# Altium integrated library Res-SMD_V2.IntLib: 2369 symbols (part 9 of 18)
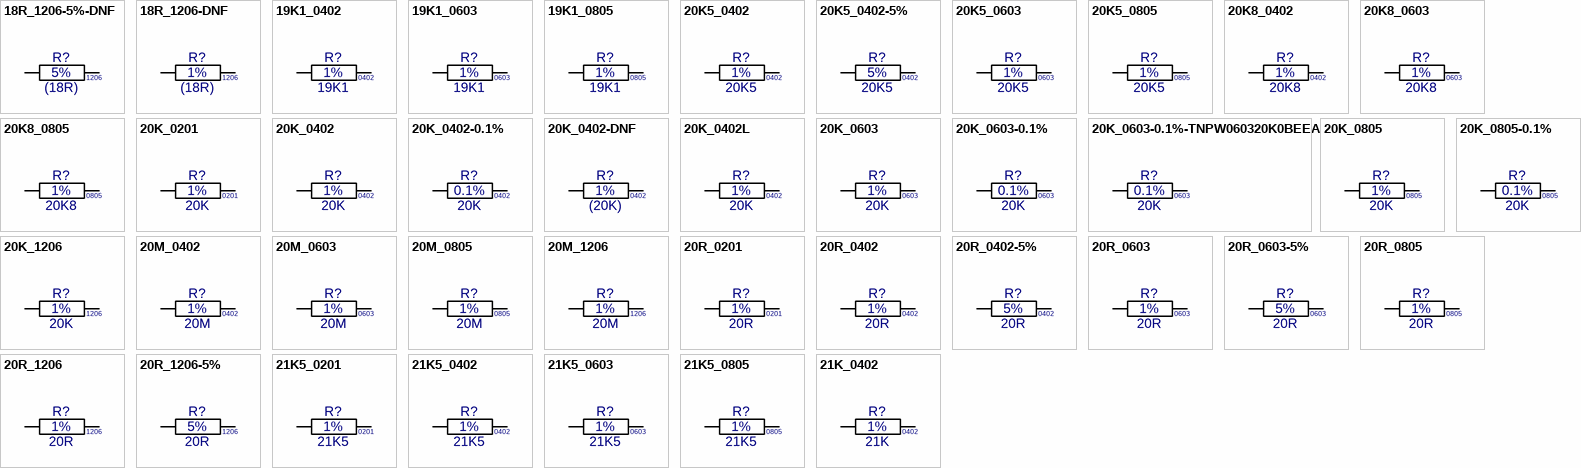
[diagram p67: symbols 18R_1206-5%-DNF to 21K_0402]

## 20R_1206-5%
designator R?, comment value 20R  Tol: 5%  Text1: 1206  (hidden comment: 20R_R1206_5%)
Resistor Chip SMD; Manufacturer: Various; Part Number: 20R 1206 5%; Watt: 250mW; Package: RESC1206X71N; EDM-PN: *; Text2: *; Reutech PN: *; SAAB PN: *; DCE Part No: *
footprint RESC1206X71N (Chip Resistor, 1206, 2-Leads, Body 3.2x1.6mm, IPC Medium Density)
pins: 1, 2

## 21K5_0201
designator R?, comment value 21K5  Tol: 1%  Text1: 0201  (hidden comment: 21K5_R0201_1%)
Resistor Chip SMD; Manufacturer: Various; Part Number: 21K5 0201 1%; Watt: 31mW; Package: RESC0201X33N; EDM-PN: *; Text2: *; Reutech PN: *; SAAB PN: *; DCE Part No: *
footprint RESC0201X33N (Chip Resistor, 0201, 2-Leads, Body 0.6x0.3mm, IPC Medium Density)
pins: 1, 2

## 21K5_0402
designator R?, comment value 21K5  Tol: 1%  Text1: 0402  (hidden comment: 21K5_R0402_1%)
Resistor Chip SMD; Manufacturer: Various; Part Number: 21K5 0402 1%; Watt: 63mW; Package: RESC0402X40N; EDM-PN: *; Text2: *; Reutech PN: *; SAAB PN: *; DCE Part No: *
footprint RESC0402X40N (Chip Resistor, 0402, 2-Leads, Body 1.1x0.5mm, IPC Medium Density)
pins: 1, 2

## 21K5_0603
designator R?, comment value 21K5  Tol: 1%  Text1: 0603  (hidden comment: 21K5_R0603_1%)
Resistor Chip SMD; Manufacturer: Various; Part Number: 21K5 0603 1%; Watt: 100mW; Package: RESC0603X60N; EDM-PN: *; Text2: *; Reutech PN: *; SAAB PN: *; DCE Part No: *
footprint RESC0603X60N (Chip Resistor, 0603, 2-Leads, Body 1.6x0.8mm, IPC Medium Density)
pins: 1, 2

## 21K5_0805
designator R?, comment value 21K5  Tol: 1%  Text1: 0805  (hidden comment: 21K5_R0805_1%)
Resistor Chip SMD; Manufacturer: Various; Part Number: 21K5 0805 1%; Watt: 125mW; Package: RESC0805X65N; EDM-PN: *; Text2: *; Reutech PN: *; SAAB PN: *; DCE Part No: *
footprint RESC0805X65N (Chip Resistor, 0805, 2-Leads, Body 2.0x1.3mm, IPC Medium Density)
pins: 1, 2

## 21K_0402
designator R?, comment value 21K  Tol: 1%  Text1: 0402  (hidden comment: 21K_R0402_1%)
Resistor Chip SMD; Manufacturer: Various; Part Number: 21K 0402 1%; Watt: 63mW; Package: RESC0402X40N; EDM-PN: *; Text2: *; Reutech PN: *; SAAB PN: *; DCE Part No: *
footprint RESC0402X40N (Chip Resistor, 0402, 2-Leads, Body 1.1x0.5mm, IPC Medium Density)
pins: 1, 2

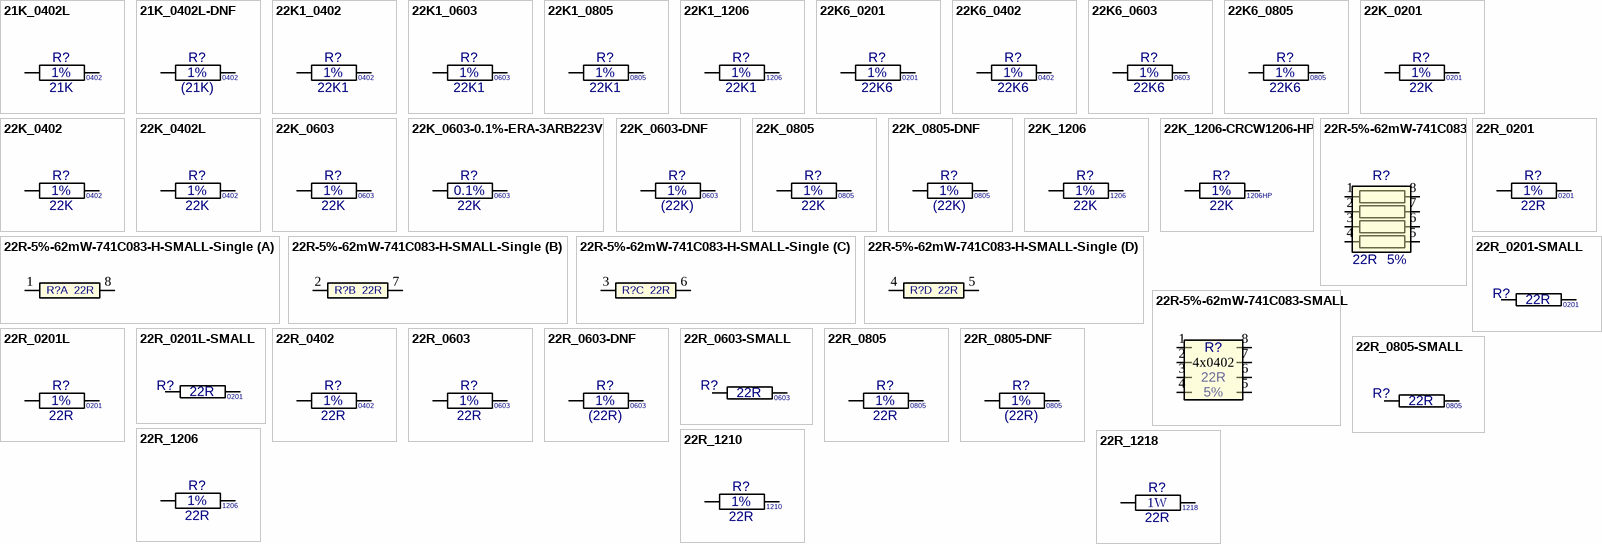
[diagram p27: symbols 21K_0402L to 22R_1218]

## 21K_0402L
designator R?, comment value 21K  Tol: 1%  Text1: 0402  (hidden comment: 21K_R0402_1%)
Resistor Chip SMD; Manufacturer: Various; Part Number: 21K 0402 1%; Watt: 63mW; Package: RESC0402X40L; EDM-PN: *; Text2: *; Reutech PN: *; SAAB PN: *; DCE Part No: *
footprint RESC0402X40L (Chip Resistor, 0402, 2-Leads, Body 1.1x0.5mm, IPC High Density)
pins: 1, 2

## 21K_0402L-DNF
designator R?, comment value (21K)  Tol: 1%  Text1: 0402  (hidden comment: 21K_R0402_1%)
Resistor Chip SMD - Do not Fit; Manufacturer: Various; Part Number: DNF - 21K 0402 1%; Watt: 63mW; Package: RESC0402X40L; EDM-PN: *; Text2: *; Reutech PN: *; SAAB PN: *; DCE Part No: *
footprint RESC0402X40L (Chip Resistor, 0402, 2-Leads, Body 1.1x0.5mm, IPC High Density)
pins: 1, 2

## 22K1_0402
designator R?, comment value 22K1  Tol: 1%  Text1: 0402  (hidden comment: 22K1_R0402_1%)
Resistor Chip SMD; Manufacturer: Various; Part Number: 22K1 0402 1%; Watt: 63mW; Package: RESC0402X40N; EDM-PN: *; Text2: *; Reutech PN: *; SAAB PN: *; DCE Part No: *
footprint RESC0402X40N (Chip Resistor, 0402, 2-Leads, Body 1.1x0.5mm, IPC Medium Density)
pins: 1, 2

## 22K1_0603
designator R?, comment value 22K1  Tol: 1%  Text1: 0603  (hidden comment: 22K1_R0603_1%)
Resistor Chip SMD; Manufacturer: Various; Part Number: 22K1 0603 1%; Watt: 100mW; Package: RESC0603X60N; EDM-PN: *; Text2: *; Reutech PN: *; SAAB PN: *; DCE Part No: *
footprint RESC0603X60N (Chip Resistor, 0603, 2-Leads, Body 1.6x0.8mm, IPC Medium Density)
pins: 1, 2

## 22K1_0805
designator R?, comment value 22K1  Tol: 1%  Text1: 0805  (hidden comment: 22K1_R0805_1%)
Resistor Chip SMD; Manufacturer: Various; Part Number: 22K1 0805 1%; Watt: 125mW; Package: RESC0805X65N; EDM-PN: *; Text2: *; Reutech PN: *; SAAB PN: *; DCE Part No: *
footprint RESC0805X65N (Chip Resistor, 0805, 2-Leads, Body 2.0x1.3mm, IPC Medium Density)
pins: 1, 2

## 22K1_1206
designator R?, comment value 22K1  Tol: 1%  Text1: 1206  (hidden comment: 22K1_R1206_1%)
Resistor Chip SMD; Manufacturer: Various; Part Number: 22K1 1206 1%; Watt: 250mW; Package: RESC1206X71N; EDM-PN: *; Text2: *; Reutech PN: *; SAAB PN: *; DCE Part No: *
footprint RESC1206X71N (Chip Resistor, 1206, 2-Leads, Body 3.2x1.6mm, IPC Medium Density)
pins: 1, 2

## 22K6_0201
designator R?, comment value 22K6  Tol: 1%  Text1: 0201  (hidden comment: 22K6_R0201_1%)
Resistor Chip SMD; Manufacturer: Various; Part Number: 22K6 0201 1%; Watt: 31mW; Package: RESC0201X33N; EDM-PN: *; Text2: *; Reutech PN: *; SAAB PN: *; DCE Part No: *
footprint RESC0201X33N (Chip Resistor, 0201, 2-Leads, Body 0.6x0.3mm, IPC Medium Density)
pins: 1, 2

## 22K6_0402
designator R?, comment value 22K6  Tol: 1%  Text1: 0402  (hidden comment: 22K6_R0402_1%)
Resistor Chip SMD; Manufacturer: Various; Part Number: 22K6 0402 1%; Watt: 63mW; Package: RESC0402X40N; EDM-PN: *; Text2: *; Reutech PN: *; SAAB PN: *; DCE Part No: *
footprint RESC0402X40N (Chip Resistor, 0402, 2-Leads, Body 1.1x0.5mm, IPC Medium Density)
pins: 1, 2

## 22K6_0603
designator R?, comment value 22K6  Tol: 1%  Text1: 0603  (hidden comment: 22K6_R0603_1%)
Resistor Chip SMD; Manufacturer: Various; Part Number: 22K6 0603 1%; Watt: 100mW; Package: RESC0603X60N; EDM-PN: *; Text2: *; Reutech PN: *; SAAB PN: *; DCE Part No: *
footprint RESC0603X60N (Chip Resistor, 0603, 2-Leads, Body 1.6x0.8mm, IPC Medium Density)
pins: 1, 2

## 22K6_0805
designator R?, comment value 22K6  Tol: 1%  Text1: 0805  (hidden comment: 22K6_R0805_1%)
Resistor Chip SMD; Manufacturer: Various; Part Number: 22K6 0805 1%; Watt: 125mW; Package: RESC0805X65N; EDM-PN: *; Text2: *; Reutech PN: *; SAAB PN: *; DCE Part No: *
footprint RESC0805X65N (Chip Resistor, 0805, 2-Leads, Body 2.0x1.3mm, IPC Medium Density)
pins: 1, 2

## 22K_0201
designator R?, comment value 22K  Tol: 1%  Text1: 0201  (hidden comment: 22K_R0201_1%)
Resistor Chip SMD; Manufacturer: Various; Part Number: 22K 0201 1%; Watt: 31mW; Package: RESC0201X33N; EDM-PN: *; Text2: *; Reutech PN: *; SAAB PN: *; DCE Part No: *
footprint RESC0201X33N (Chip Resistor, 0201, 2-Leads, Body 0.6x0.3mm, IPC Medium Density)
pins: 1, 2

## 22K_0402
designator R?, comment value 22K  Tol: 1%  Text1: 0402  (hidden comment: 22K_R0402_1%)
Resistor Chip SMD; Manufacturer: Various; Part Number: 22K 0402 1%; DCE Part No: 8056; Watt: 63mW; EDM-PN: RES656; Package: RESC0402X40N; Text2: *; Reutech PN: *; SAAB PN: *
footprint RESC0402X40N (Chip Resistor, 0402, 2-Leads, Body 1.1x0.5mm, IPC Medium Density)
pins: 1, 2

## 22K_0402L
designator R?, comment value 22K  Tol: 1%  Text1: 0402  (hidden comment: 22K_R0402_1%)
Resistor Chip SMD; Manufacturer: Various; Part Number: 22K 0402 1%; DCE Part No: 8056; Watt: 63mW; EDM-PN: RES656; Package: RESC0402X40L; Text2: *; Reutech PN: *; SAAB PN: *
footprint RESC0402X40L (Chip Resistor, 0402, 2-Leads, Body 1.1x0.5mm, IPC High Density)
pins: 1, 2

## 22K_0603
designator R?, comment value 22K  Tol: 1%  Text1: 0603  (hidden comment: 22K_R0603_1%)
Resistor Chip SMD; Manufacturer: Various; Part Number: 22K 0603 1%; Watt: 100mW; EDM-PN: RES182; Package: RESC0603X60N; Text2: *; Reutech PN: *; SAAB PN: *; DCE Part No: *
footprint RESC0603X60N (Chip Resistor, 0603, 2-Leads, Body 1.6x0.8mm, IPC Medium Density)
pins: 1, 2

## 22K_0603-0.1%-ERA-3ARB223V
designator R?, comment value 22K  Tol: 0.1%  Text1: 0603  (hidden comment: ERA-3ARB223V)
Resistor Chip SMD; Manufacturer: Panasonic; Watt: 100mW; Part Number: ERA-3ARB223V; Package: RESC0603X60N; EDM-PN: *; Text2: *; Reutech PN: *; SAAB PN: *; DCE Part No: *
footprint RESC0603X60N (Chip Resistor, 0603, 2-Leads, Body 1.6x0.8mm, IPC Medium Density)
pins: 1, 2

## 22K_0603-DNF
designator R?, comment value (22K)  Tol: 1%  Text1: 0603  (hidden comment: 22K_R0603_1%)
Resistor Chip SMD - Do not Fit; Manufacturer: Various; Part Number: DNF - 22K 0603 1%; Watt: 100mW; EDM-PN: RES182; Package: RESC0603X60N; Text2: *; Reutech PN: *; SAAB PN: *; DCE Part No: *
footprint RESC0603X60N (Chip Resistor, 0603, 2-Leads, Body 1.6x0.8mm, IPC Medium Density)
pins: 1, 2

## 22K_0805
designator R?, comment value 22K  Tol: 1%  Text1: 0805  (hidden comment: 22K_R0805_1%)
Resistor Chip SMD; Manufacturer: Various; Part Number: 22K 0805 1%; Watt: 125mW; EDM-PN: RES63; Package: RESC0805X65N; Text2: *; Reutech PN: *; SAAB PN: *; DCE Part No: *
footprint RESC0805X65N (Chip Resistor, 0805, 2-Leads, Body 2.0x1.3mm, IPC Medium Density)
pins: 1, 2

## 22K_0805-DNF
designator R?, comment value (22K)  Tol: 1%  Text1: 0805  (hidden comment: 22K_R0805_1%)
Resistor Chip SMD - Do not Fit; Manufacturer: Various; Part Number: DNF - 22K 0805 1%; Watt: 125mW; EDM-PN: RES63; Package: RESC0805X65N; Text2: *; Reutech PN: *; SAAB PN: *; DCE Part No: *
footprint RESC0805X65N (Chip Resistor, 0805, 2-Leads, Body 2.0x1.3mm, IPC Medium Density)
pins: 1, 2

## 22K_1206
designator R?, comment value 22K  Tol: 1%  Text1: 1206  (hidden comment: 22K_R1206_1%)
Resistor Chip SMD; Manufacturer: Various; Part Number: 22K 1206 1%; Watt: 250mW; Package: RESC1206X71N; EDM-PN: *; Text2: *; Reutech PN: *; SAAB PN: *; DCE Part No: *
footprint RESC1206X71N (Chip Resistor, 1206, 2-Leads, Body 3.2x1.6mm, IPC Medium Density)
pins: 1, 2

## 22K_1206-CRCW1206-HP
designator R?, comment value 22K  Tol: 1%  Text1: 1206HP  (hidden comment: 22K_R1206_1%-CRCW1206-HP)
Resistor Chip Pulse Proof High Power Thick Film; Manufacturer: Vishay; Part Number: CRCW120622K0FKEAHP; Watt: 500mW; Package: CRCW1206-HP; EDM-PN: *; Text2: *; Reutech PN: *; SAAB PN: *; DCE Part No: *
footprint CRCW1206-HP (CCRCW1206-HP 3.2x1.6mm, IPC Medium Density)
pins: 1, 2

## 22R-5%-62mW-741C083
designator R?, comment value 22R  Tol: 5%  (hidden comment: 22R-5%-62mW-741C083-H)
Resistor Chip Array; Manufacturer: CTS; Part Number: 741C083220JP; Watt: 62mW; Package: 741C083; EDM-PN: *; Text2: *; Text1: *; Reutech PN: *; SAAB PN: *; DCE Part No: *
footprint 741C083 (741C083 1.0x2.0mm)
pins: 1, 2, 3, 4, 5, 6, 7, 8

## 22R-5%-62mW-741C083-H-SMALL-Single
designator R?  value 22R  (hidden comment: 22R-5%-62mW-741C083-H-SMALL-Single)
Resistor Chip Array; Manufacturer: CTS; Part Number: 741C083220JP; Watt: 62mW; Tol: 5%; Package: 741C083; EDM-PN: *; Text2: *; Text1: *; Reutech PN: *; SAAB PN: *; DCE Part No: *
footprint 741C083 (741C083 1.0x2.0mm)
part A pins: 1, 8
part B pins: 2, 7
part C pins: 3, 6
part D pins: 4, 5

## 22R-5%-62mW-741C083-SMALL
designator R?, comment value 22R  Tol: 5%  (hidden comment: 22R-5%-62mW-741C083-H-SMALL)
Resistor Chip Array; Manufacturer: CTS; Part Number: 741C083220JP; Watt: 62mW; Package: 741C083; EDM-PN: *; Text2: *; Text1: *; Reutech PN: *; SAAB PN: *; DCE Part No: *
footprint 741C083 (741C083 1.0x2.0mm)
pins: 1, 2, 3, 4, 5, 6, 7, 8
text: 4x0402

## 22R_0201
designator R?, comment value 22R  Tol: 1%  Text1: 0201  (hidden comment: 22R_R0201_1%)
Resistor Chip SMD; Manufacturer: Various; Part Number: 22R 0201 1%; Watt: 31mW; Package: RESC0201X33N; EDM-PN: *; Text2: *; Reutech PN: *; SAAB PN: *; DCE Part No: *
footprint RESC0201X33N (Chip Resistor, 0201, 2-Leads, Body 0.6x0.3mm, IPC Medium Density)
pins: 1, 2

## 22R_0201-SMALL
designator R?, comment value 22R  Text1: 0201  (hidden comment: 22R_R0201_1%)
Resistor Chip SMD; Manufacturer: Various; Part Number: 22R 0201 1%; Watt: 31mW; Tol: 1%; Package: RESC0201X33N; EDM-PN: *; Text2: *; Reutech PN: *; SAAB PN: *; DCE Part No: *
footprint RESC0201X33N (Chip Resistor, 0201, 2-Leads, Body 0.6x0.3mm, IPC Medium Density)
pins: 1, 2

## 22R_0201L
designator R?, comment value 22R  Tol: 1%  Text1: 0201  (hidden comment: 22R_R0201_1%)
Resistor Chip SMD; Manufacturer: Various; Part Number: 22R 0201 1%; Watt: 31mW; Package: RESC0201X33L; EDM-PN: *; Text2: *; Reutech PN: *; SAAB PN: *; DCE Part No: *
footprint RESC0201X33L (Chip Resistor, 0201, 2-Leads, Body 0.6x0.3mm, IPC Least Density)
pins: 1, 2

## 22R_0201L-SMALL
designator R?, comment value 22R  Text1: 0201  (hidden comment: 22R_R0201_1%)
Resistor Chip SMD; Manufacturer: Various; Part Number: 22R 0201 1%; Watt: 31mW; Tol: 1%; Package: RESC0201X33L; EDM-PN: *; Text2: *; Reutech PN: *; SAAB PN: *; DCE Part No: *
footprint RESC0201X33L (Chip Resistor, 0201, 2-Leads, Body 0.6x0.3mm, IPC Least Density)
pins: 1, 2

## 22R_0402
designator R?, comment value 22R  Tol: 1%  Text1: 0402  (hidden comment: 22R_R0402_1%)
Resistor Chip SMD; Manufacturer: Various; Part Number: 22R 0402 1%; Watt: 63mW; EDM-PN: RES1428; Package: RESC0402X40N; Text2: *; Reutech PN: *; SAAB PN: *; DCE Part No: *
footprint RESC0402X40N (Chip Resistor, 0402, 2-Leads, Body 1.1x0.5mm, IPC Medium Density)
pins: 1, 2

## 22R_0603
designator R?, comment value 22R  Tol: 1%  Text1: 0603  (hidden comment: 22R_R0603_1%)
Resistor Chip SMD; Manufacturer: Various; Part Number: 22R 0603 1%; Watt: 100mW; EDM-PN: RES181; Package: RESC0603X60N; Text2: *; Reutech PN: *; SAAB PN: *; DCE Part No: *
footprint RESC0603X60N (Chip Resistor, 0603, 2-Leads, Body 1.6x0.8mm, IPC Medium Density)
pins: 1, 2

## 22R_0603-DNF
designator R?, comment value (22R)  Tol: 1%  Text1: 0603  (hidden comment: 22R_R0603_1%-DNF)
Resistor Chip SMD - Do not Fit; Manufacturer: Various; Part Number: DNF - 22R 0603 1%; Watt: 100mW; Package: RESC0603X60N; EDM-PN: *; Text2: *; Reutech PN: *; SAAB PN: *; DCE Part No: *
footprint RESC0603X60N (Chip Resistor, 0603, 2-Leads, Body 1.6x0.8mm, IPC Medium Density)
pins: 1, 2

## 22R_0603-SMALL
designator R?, comment value 22R  Text1: 0603  (hidden comment: 22R_R0603_1%)
Resistor Chip SMD; Manufacturer: Various; Part Number: 22R 0603 1%; Watt: 100mW; EDM-PN: RES181; Tol: 1%; Package: RESC0603X60N; Text2: *; Reutech PN: *; SAAB PN: *; DCE Part No: *
footprint RESC0603X60N (Chip Resistor, 0603, 2-Leads, Body 1.6x0.8mm, IPC Medium Density)
pins: 1, 2

## 22R_0805
designator R?, comment value 22R  Tol: 1%  Text1: 0805  (hidden comment: 22R_R0805_1%)
Resistor Chip SMD; Manufacturer: Various; Part Number: 22R 0805 1%; Watt: 125mW; EDM-PN: RES16; Package: RESC0805X65N; Text2: *; Reutech PN: *; SAAB PN: *; DCE Part No: *
footprint RESC0805X65N (Chip Resistor, 0805, 2-Leads, Body 2.0x1.3mm, IPC Medium Density)
pins: 1, 2

## 22R_0805-DNF
designator R?, comment value (22R)  Tol: 1%  Text1: 0805  (hidden comment: 22R_R0805_1%-DNF)
Resistor Chip SMD - Do not Fit; Manufacturer: Various; Part Number: DNF - 22R 0805 1%; Watt: 125mW; EDM-PN: RES16; Package: RESC0805X65N; Text2: *; Reutech PN: *; SAAB PN: *; DCE Part No: *
footprint RESC0805X65N (Chip Resistor, 0805, 2-Leads, Body 2.0x1.3mm, IPC Medium Density)
pins: 1, 2

## 22R_0805-SMALL
designator R?, comment value 22R  Text1: 0805  (hidden comment: 22R_R0805_1%)
Resistor Chip SMD; Manufacturer: Various; Part Number: 22R 0805 1%; Watt: 125mW; EDM-PN: RES16; Tol: 1%; Package: RESC0805X65N; Text2: *; Reutech PN: *; SAAB PN: *; DCE Part No: *
footprint RESC0805X65N (Chip Resistor, 0805, 2-Leads, Body 2.0x1.3mm, IPC Medium Density)
pins: 1, 2

## 22R_1206
designator R?, comment value 22R  Tol: 1%  Text1: 1206  (hidden comment: 22R_R1206_1%)
Resistor Chip SMD; Manufacturer: Various; Part Number: 22R 1206 1%; Watt: 250mW; EDM-PN: RES514; Package: RESC1206X71N; Text2: *; Reutech PN: *; SAAB PN: *; DCE Part No: *
footprint RESC1206X71N (Chip Resistor, 1206, 2-Leads, Body 3.2x1.6mm, IPC Medium Density)
pins: 1, 2

## 22R_1210
designator R?, comment value 22R  Tol: 1%  Text1: 1210  (hidden comment: 22R_R1210_1%)
Resistor Chip SMD; Manufacturer: Various; Part Number: 22R 1210 1%; Watt: 500mW; EDM-PN: RES1564; Package: RESC1210X71N; Text2: *; Reutech PN: *; SAAB PN: *; DCE Part No: *
footprint RESC1210X71N (Chip Resistor, 1210, 2-Leads, Body 3.2x2.5mm, IPC Medium Density)
pins: 1, 2

## 22R_1218
designator R?, comment value 22R  Watt: 1W  Text1: 1218  (hidden comment: 22R_R1218_1%)
Resistor Chip SMD; Manufacturer: Various; Part Number: 22R 1218 1%; Tol: 1%; Package: RESC1218N; EDM-PN: *; Text2: *; Reutech PN: *; SAAB PN: *; DCE Part No: *
footprint RESC1218N (Chip Resistor, 1218, 2-Leads, Body 3.2x4.6mm, IPC Medium Density)
pins: 1, 2

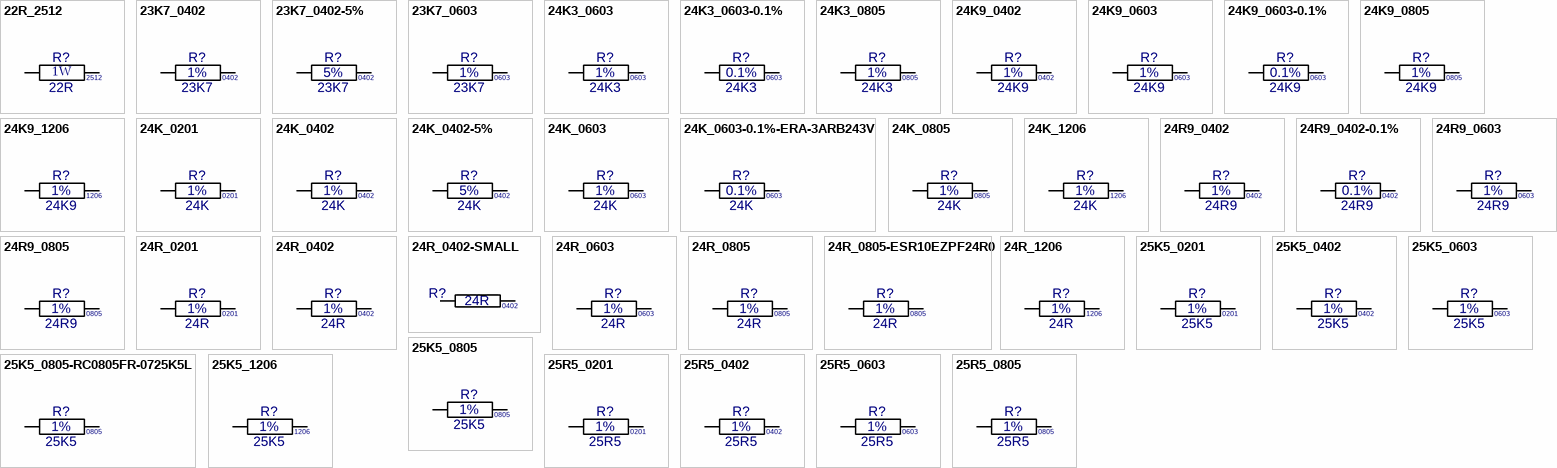
[diagram p28: symbols 22R_2512 to 25R5_0805]

## 22R_2512
designator R?, comment value 22R  Watt: 1W  Text1: 2512  (hidden comment: 22R_R2512)
Resistor Chip SMD; Manufacturer: Various; Part Number: 22R 2512  1%; Tol: 1%; Package: RESC2512X71N; EDM-PN: *; Text2: *; Reutech PN: *; SAAB PN: *; DCE Part No: *
footprint RESC2512X71N (Chip Resistor, 2512, 2-Leads, Body 6.3x3.2mm, IPC Medium Density)
pins: 1, 2

## 23K7_0402
designator R?, comment value 23K7  Tol: 1%  Text1: 0402  (hidden comment: 23K7_R0402_1%)
Resistor Chip SMD; Manufacturer: Various; Part Number: 23K7 0402 1%; Watt: 63mW; Package: RESC0402X40N; EDM-PN: *; Text2: *; Reutech PN: *; SAAB PN: *; DCE Part No: *
footprint RESC0402X40N (Chip Resistor, 0402, 2-Leads, Body 1.1x0.5mm, IPC Medium Density)
pins: 1, 2

## 23K7_0402-5%
designator R?, comment value 23K7  Tol: 5%  Text1: 0402  (hidden comment: 23K7_R0402_5%)
Resistor Chip SMD; Manufacturer: Various; Part Number: 23K7 0402 5%; Watt: 63mW; Package: RESC0402X40N; EDM-PN: *; Text2: *; Reutech PN: *; SAAB PN: *; DCE Part No: *
footprint RESC0402X40N (Chip Resistor, 0402, 2-Leads, Body 1.1x0.5mm, IPC Medium Density)
pins: 1, 2

## 23K7_0603
designator R?, comment value 23K7  Tol: 1%  Text1: 0603  (hidden comment: 23K7_R0603_1%)
Resistor Chip SMD; Manufacturer: Various; Part Number: 23K7 0603 1%; Watt: 100mW; EDM-PN: RES1523; Package: RESC0603X60N; Text2: *; Reutech PN: *; SAAB PN: *; DCE Part No: *
footprint RESC0603X60N (Chip Resistor, 0603, 2-Leads, Body 1.6x0.8mm, IPC Medium Density)
pins: 1, 2

## 24K3_0603
designator R?, comment value 24K3  Tol: 1%  Text1: 0603  (hidden comment: 24K3_R0603_1%)
Resistor Chip SMD; Manufacturer: Various; Part Number: 24K3 0603 1%; Watt: 100mW; Package: RESC0603X60N; EDM-PN: *; Text2: *; Reutech PN: *; SAAB PN: *; DCE Part No: *
footprint RESC0603X60N (Chip Resistor, 0603, 2-Leads, Body 1.6x0.8mm, IPC Medium Density)
pins: 1, 2

## 24K3_0603-0.1%
designator R?, comment value 24K3  Tol: 0.1%  Text1: 0603  (hidden comment: 24K3_R0603_0.1%)
Resistor Chip SMD; Manufacturer: Various; Part Number: 24K3 0603 0.1%; Watt: 100mW; Package: RESC0603X60N; EDM-PN: *; Text2: *; Reutech PN: *; SAAB PN: *; DCE Part No: *
footprint RESC0603X60N (Chip Resistor, 0603, 2-Leads, Body 1.6x0.8mm, IPC Medium Density)
pins: 1, 2

## 24K3_0805
designator R?, comment value 24K3  Tol: 1%  Text1: 0805  (hidden comment: 24K3_R0805_1%)
Resistor Chip SMD; Manufacturer: Various; Part Number: 24K3 0805 1%; Watt: 125mW; Package: RESC0805X65N; EDM-PN: *; Text2: *; Reutech PN: *; SAAB PN: *; DCE Part No: *
footprint RESC0805X65N (Chip Resistor, 0805, 2-Leads, Body 2.0x1.3mm, IPC Medium Density)
pins: 1, 2

## 24K9_0402
designator R?, comment value 24K9  Tol: 1%  Text1: 0402  (hidden comment: 24K9_R0402_1%)
Resistor Chip SMD; Manufacturer: Various; Part Number: 24K9 0402 1%; Watt: 63mW; Package: RESC0402X40N; EDM-PN: *; Text2: *; Reutech PN: *; SAAB PN: *; DCE Part No: *
footprint RESC0402X40N (Chip Resistor, 0402, 2-Leads, Body 1.1x0.5mm, IPC Medium Density)
pins: 1, 2

## 24K9_0603
designator R?, comment value 24K9  Tol: 1%  Text1: 0603  (hidden comment: 24K9_R0603)
Resistor Chip SMD; Manufacturer: Various; Part Number: 24K9 0603 1%; Watt: 100mW; EDM-PN: RES1027; Package: RESC0603X60N; Text2: *; Reutech PN: *; SAAB PN: *; DCE Part No: *
footprint RESC0603X60N (Chip Resistor, 0603, 2-Leads, Body 1.6x0.8mm, IPC Medium Density)
pins: 1, 2

## 24K9_0603-0.1%
designator R?, comment value 24K9  Tol: 0.1%  Text1: 0603  (hidden comment: 24K9_R0603_0.1%)
Resistor Chip SMD; Manufacturer: Various; Part Number: 24K9 0603 0.1%; Watt: 100mW; Package: RESC0603X60N; EDM-PN: *; Text2: *; Reutech PN: *; SAAB PN: *; DCE Part No: *
footprint RESC0603X60N (Chip Resistor, 0603, 2-Leads, Body 1.6x0.8mm, IPC Medium Density)
pins: 1, 2

## 24K9_0805
designator R?, comment value 24K9  Tol: 1%  Text1: 0805  (hidden comment: 24K9_R0805_1%)
Resistor Chip SMD; Manufacturer: Various; Part Number: 24K9 0805 1%; Watt: 125mW; Package: RESC0805X65N; EDM-PN: *; Text2: *; Reutech PN: *; SAAB PN: *; DCE Part No: *
footprint RESC0805X65N (Chip Resistor, 0805, 2-Leads, Body 2.0x1.3mm, IPC Medium Density)
pins: 1, 2

## 24K9_1206
designator R?, comment value 24K9  Tol: 1%  Text1: 1206  (hidden comment: 24K9_R1206_1%)
Resistor Chip SMD; Manufacturer: Various; Part Number: 24K9 1206 1%; Watt: 250mW; Package: RESC1206X71N; EDM-PN: *; Text2: *; Reutech PN: *; SAAB PN: *; DCE Part No: *
footprint RESC1206X71N (Chip Resistor, 1206, 2-Leads, Body 3.2x1.6mm, IPC Medium Density)
pins: 1, 2

## 24K_0201
designator R?, comment value 24K  Tol: 1%  Text1: 0201  (hidden comment: 24K_R0201_1%)
Resistor Chip SMD; Manufacturer: Various; Part Number: 24K 0201 1%; Watt: 31mW; Package: RESC0201X33N; EDM-PN: *; Text2: *; Reutech PN: *; SAAB PN: *; DCE Part No: *
footprint RESC0201X33N (Chip Resistor, 0201, 2-Leads, Body 0.6x0.3mm, IPC Medium Density)
pins: 1, 2

## 24K_0402
designator R?, comment value 24K  Tol: 1%  Text1: 0402  (hidden comment: 24K_R0402_1%)
Resistor Chip SMD; Manufacturer: Various; Part Number: 24K 0402 1%; Watt: 63mW; EDM-PN: RES1488; Package: RESC0402X40N; Text2: *; Reutech PN: *; SAAB PN: *; DCE Part No: *
footprint RESC0402X40N (Chip Resistor, 0402, 2-Leads, Body 1.1x0.5mm, IPC Medium Density)
pins: 1, 2

## 24K_0402-5%
designator R?, comment value 24K  Tol: 5%  Text1: 0402  (hidden comment: 24K_R0402_5%)
Resistor Chip SMD; Manufacturer: Various; Part Number: 24K 0402 5%; Watt: 63mW; Package: RESC0402X40N; EDM-PN: *; Text2: *; Reutech PN: *; SAAB PN: *; DCE Part No: *
footprint RESC0402X40N (Chip Resistor, 0402, 2-Leads, Body 1.1x0.5mm, IPC Medium Density)
pins: 1, 2

## 24K_0603
designator R?, comment value 24K  Tol: 1%  Text1: 0603  (hidden comment: 24K_R0603_1%)
Resistor Chip SMD; Manufacturer: Various; Part Number: 24K 0603 1%; Watt: 100mW; EDM-PN: RES750; Package: RESC0603X60N; Text2: *; Reutech PN: 5905-93-2402; SAAB PN: *; DCE Part No: *
footprint RESC0603X60N (Chip Resistor, 0603, 2-Leads, Body 1.6x0.8mm, IPC Medium Density)
pins: 1, 2

## 24K_0603-0.1%-ERA-3ARB243V
designator R?, comment value 24K  Tol: 0.1%  Text1: 0603  (hidden comment: ERA-3ARB243V)
Resistor Chip SMD; Manufacturer: Panasonic; Watt: 100mW; Part Number: ERA-3ARB243V; Package: RESC0603X60N; EDM-PN: *; Text2: *; Reutech PN: *; SAAB PN: *; DCE Part No: *
footprint RESC0603X60N (Chip Resistor, 0603, 2-Leads, Body 1.6x0.8mm, IPC Medium Density)
pins: 1, 2

## 24K_0805
designator R?, comment value 24K  Tol: 1%  Text1: 0805  (hidden comment: 24K_R0805_1%)
Resistor Chip SMD; Manufacturer: Various; Part Number: 24K 0805 1%; Watt: 125mW; Package: RESC0805X65N; EDM-PN: *; Text2: *; Reutech PN: *; SAAB PN: *; DCE Part No: *
footprint RESC0805X65N (Chip Resistor, 0805, 2-Leads, Body 2.0x1.3mm, IPC Medium Density)
pins: 1, 2

## 24K_1206
designator R?, comment value 24K  Tol: 1%  Text1: 1206  (hidden comment: 24K_R1206_1%)
Resistor Chip SMD; Manufacturer: Various; Part Number: 24K 1206 1%; Watt: 250mW; Package: RESC1206X71N; EDM-PN: *; Text2: *; Reutech PN: *; SAAB PN: *; DCE Part No: *
footprint RESC1206X71N (Chip Resistor, 1206, 2-Leads, Body 3.2x1.6mm, IPC Medium Density)
pins: 1, 2

## 24R9_0402
designator R?, comment value 24R9  Tol: 1%  Text1: 0402  (hidden comment: 24R9_R0402_1%)
Resistor Chip SMD; Manufacturer: Various; Part Number: 24R9 0402 1%; Watt: 63mW; Package: RESC0402X40N; EDM-PN: *; Text2: *; Reutech PN: *; SAAB PN: *; DCE Part No: *
footprint RESC0402X40N (Chip Resistor, 0402, 2-Leads, Body 1.1x0.5mm, IPC Medium Density)
pins: 1, 2

## 24R9_0402-0.1%
designator R?, comment value 24R9  Tol: 0.1%  Text1: 0402  (hidden comment: 24R9_R0402_0.1%)
Resistor Chip SMD; Manufacturer: Various; Part Number: 24R9 0402 0.1%; Watt: 63mW; Package: RESC0402X40N; EDM-PN: *; Text2: *; Reutech PN: *; SAAB PN: *; DCE Part No: *
footprint RESC0402X40N (Chip Resistor, 0402, 2-Leads, Body 1.1x0.5mm, IPC Medium Density)
pins: 1, 2

## 24R9_0603
designator R?, comment value 24R9  Tol: 1%  Text1: 0603  (hidden comment: 24R9_R0603)
Resistor Chip SMD; Manufacturer: Various; Part Number: 24R9 0603 1%; Watt: 100mW; Package: RESC0603X60N; EDM-PN: *; Text2: *; Reutech PN: *; SAAB PN: *; DCE Part No: *
footprint RESC0603X60N (Chip Resistor, 0603, 2-Leads, Body 1.6x0.8mm, IPC Medium Density)
pins: 1, 2

## 24R9_0805
designator R?, comment value 24R9  Tol: 1%  Text1: 0805  (hidden comment: 24R9_R0805_1%)
Resistor Chip SMD; Manufacturer: Various; Part Number: 24R9 0805 1%; Watt: 125mW; Package: RESC0805X65N; EDM-PN: *; Text2: *; Reutech PN: *; SAAB PN: *; DCE Part No: *
footprint RESC0805X65N (Chip Resistor, 0805, 2-Leads, Body 2.0x1.3mm, IPC Medium Density)
pins: 1, 2

## 24R_0201
designator R?, comment value 24R  Tol: 1%  Text1: 0201  (hidden comment: 24R_R0201_1%)
Resistor Chip SMD; Manufacturer: Various; Part Number: 24R 0201 1%; Watt: 31mW; Package: RESC0201X33N; EDM-PN: *; Text2: *; Reutech PN: *; SAAB PN: *; DCE Part No: *
footprint RESC0201X33N (Chip Resistor, 0201, 2-Leads, Body 0.6x0.3mm, IPC Medium Density)
pins: 1, 2

## 24R_0402
designator R?, comment value 24R  Tol: 1%  Text1: 0402  (hidden comment: 24R_R0402_1%)
Resistor Chip SMD; Manufacturer: Various; Part Number: 24R 0402 1%; Watt: 63mW; Package: RESC0402X40N; EDM-PN: *; Text2: *; Reutech PN: *; SAAB PN: *; DCE Part No: *
footprint RESC0402X40N (Chip Resistor, 0402, 2-Leads, Body 1.1x0.5mm, IPC Medium Density)
pins: 1, 2

## 24R_0402-SMALL
designator R?, comment value 24R  Text1: 0402  (hidden comment: 24R_R0402_1%)
Resistor Chip SMD; Manufacturer: Various; Part Number: 24R 0402 1%; Watt: 63mW; Tol: 1%; Package: RESC0402X40N; EDM-PN: *; Text2: *; Reutech PN: *; SAAB PN: *; DCE Part No: *
footprint RESC0402X40N (Chip Resistor, 0402, 2-Leads, Body 1.1x0.5mm, IPC Medium Density)
pins: 1, 2

## 24R_0603
designator R?, comment value 24R  Tol: 1%  Text1: 0603  (hidden comment: 24R_R0603_1%)
Resistor Chip SMD; Manufacturer: Various; Part Number: 24R 0603 1%; Watt: 100mW; Reutech PN: 5905-93-; Package: RESC0603X60N; EDM-PN: *; Text2: *; SAAB PN: *; DCE Part No: *
footprint RESC0603X60N (Chip Resistor, 0603, 2-Leads, Body 1.6x0.8mm, IPC Medium Density)
pins: 1, 2

## 24R_0805
designator R?, comment value 24R  Tol: 1%  Text1: 0805  (hidden comment: 24R_R0805_1%)
Resistor Chip SMD; Manufacturer: Various; Part Number: 24R 0805 1%; Watt: 125mW; EDM-PN: RES1583; Package: RESC0805X65N; Text2: *; Reutech PN: *; SAAB PN: *; DCE Part No: *
footprint RESC0805X65N (Chip Resistor, 0805, 2-Leads, Body 2.0x1.3mm, IPC Medium Density)
pins: 1, 2

## 24R_0805-ESR10EZPF24R0
designator R?, comment value 24R  Tol: 1%  Text1: 0805  (hidden comment: ESR10EZPF24R0)
Resistor Pulse Withstanding Thick Film; Manufacturer: Rohm; Watt: 400mW; Part Number: ESR10EZPF24R0; Package: RESC0805X65N; EDM-PN: *; Text2: *; Reutech PN: *; SAAB PN: *; DCE Part No: *
footprint RESC0805X65N (Chip Resistor, 0805, 2-Leads, Body 2.0x1.3mm, IPC Medium Density)
pins: 1, 2

## 24R_1206
designator R?, comment value 24R  Tol: 1%  Text1: 1206  (hidden comment: 24R_R1206_1%)
Resistor Chip SMD; Manufacturer: Various; Part Number: 24R 1206 1%; Watt: 250mW; Package: RESC1206X71N; EDM-PN: *; Text2: *; Reutech PN: *; SAAB PN: *; DCE Part No: *
footprint RESC1206X71N (Chip Resistor, 1206, 2-Leads, Body 3.2x1.6mm, IPC Medium Density)
pins: 1, 2

## 25K5_0201
designator R?, comment value 25K5  Tol: 1%  Text1: 0201  (hidden comment: 25K5_R0201_1%)
Resistor Chip SMD; Manufacturer: Various; Part Number: 25K5 0201 1%; Watt: 31mW; Package: RESC0201X33N; EDM-PN: *; Text2: *; Reutech PN: *; SAAB PN: *; DCE Part No: *
footprint RESC0201X33N (Chip Resistor, 0201, 2-Leads, Body 0.6x0.3mm, IPC Medium Density)
pins: 1, 2

## 25K5_0402
designator R?, comment value 25K5  Tol: 1%  Text1: 0402  (hidden comment: 25K5_R0402_1%)
Resistor Chip SMD; Manufacturer: Various; Part Number: 25K5 0402 1%; Watt: 63mW; Package: RESC0402X40N; EDM-PN: *; Text2: *; Reutech PN: *; SAAB PN: *; DCE Part No: *
footprint RESC0402X40N (Chip Resistor, 0402, 2-Leads, Body 1.1x0.5mm, IPC Medium Density)
pins: 1, 2

## 25K5_0603
designator R?, comment value 25K5  Tol: 1%  Text1: 0603  (hidden comment: 25K5_R0603_1%)
Resistor Chip SMD; Manufacturer: Various; Part Number: 25K5 0603 1%; Watt: 100mW; Package: RESC0603X60N; EDM-PN: *; Text2: *; Reutech PN: 5905-93-2552; SAAB PN: *; DCE Part No: *
footprint RESC0603X60N (Chip Resistor, 0603, 2-Leads, Body 1.6x0.8mm, IPC Medium Density)
pins: 1, 2

## 25K5_0805
designator R?, comment value 25K5  Tol: 1%  Text1: 0805  (hidden comment: 25K5_R0805_1%)
Resistor Chip SMD; Manufacturer: Various; Part Number: 25K5 0805 1%; Watt: 125mW; Package: RESC0805X65N; EDM-PN: *; Text2: *; Reutech PN: *; SAAB PN: *; DCE Part No: *
footprint RESC0805X65N (Chip Resistor, 0805, 2-Leads, Body 2.0x1.3mm, IPC Medium Density)
pins: 1, 2

## 25K5_0805-RC0805FR-0725K5L
designator R?, comment value 25K5  Tol: 1%  Text1: 0805  (hidden comment: 25K5_RC0805FR-0725K5L)
Resistor Moisture Resistant Thick Film; Manufacturer: Yageo; Watt: 125mW; Part Number: RC0805FR-0725K5L; Package: RESC0805X65N; EDM-PN: *; Text2: *; Reutech PN: *; SAAB PN: *; DCE Part No: *
footprint RESC0805X65N (Chip Resistor, 0805, 2-Leads, Body 2.0x1.3mm, IPC Medium Density)
pins: 1, 2

## 25K5_1206
designator R?, comment value 25K5  Tol: 1%  Text1: 1206  (hidden comment: 25K5_R1206_1%)
Resistor Chip SMD; Manufacturer: Various; Part Number: 25K5 1206 1%; Watt: 250mW; Package: RESC1206X71N; EDM-PN: *; Text2: *; Reutech PN: *; SAAB PN: *; DCE Part No: *
footprint RESC1206X71N (Chip Resistor, 1206, 2-Leads, Body 3.2x1.6mm, IPC Medium Density)
pins: 1, 2

## 25R5_0201
designator R?, comment value 25R5  Tol: 1%  Text1: 0201  (hidden comment: 25R5_R0201_1%)
Resistor Chip SMD; Manufacturer: Various; Part Number: 25R5 0201 1%; Watt: 31mW; Package: RESC0201X33N; EDM-PN: *; Text2: *; Reutech PN: *; SAAB PN: *; DCE Part No: *
footprint RESC0201X33N (Chip Resistor, 0201, 2-Leads, Body 0.6x0.3mm, IPC Medium Density)
pins: 1, 2

## 25R5_0402
designator R?, comment value 25R5  Tol: 1%  Text1: 0402  (hidden comment: 25R5_R0402_1%)
Resistor Chip SMD; Manufacturer: Various; Part Number: 25R5 0402 1%; Watt: 63mW; Package: RESC0402X40N; EDM-PN: *; Text2: *; Reutech PN: *; SAAB PN: *; DCE Part No: *
footprint RESC0402X40N (Chip Resistor, 0402, 2-Leads, Body 1.1x0.5mm, IPC Medium Density)
pins: 1, 2

## 25R5_0603
designator R?, comment value 25R5  Tol: 1%  Text1: 0603  (hidden comment: 25R5_R0603_1%)
Resistor Chip SMD; Manufacturer: Various; Part Number: 25R5 0603 1%; Watt: 100mW; Reutech PN: 5905-93-; Package: RESC0603X60N; EDM-PN: *; Text2: *; SAAB PN: *; DCE Part No: *
footprint RESC0603X60N (Chip Resistor, 0603, 2-Leads, Body 1.6x0.8mm, IPC Medium Density)
pins: 1, 2

## 25R5_0805
designator R?, comment value 25R5  Tol: 1%  Text1: 0805  (hidden comment: 25R5_R0805_1%)
Resistor Chip SMD; Manufacturer: Various; Part Number: 25R5 0805 1%; Watt: 125mW; Package: RESC0805X65N; EDM-PN: *; Text2: *; Reutech PN: *; SAAB PN: *; DCE Part No: *
footprint RESC0805X65N (Chip Resistor, 0805, 2-Leads, Body 2.0x1.3mm, IPC Medium Density)
pins: 1, 2

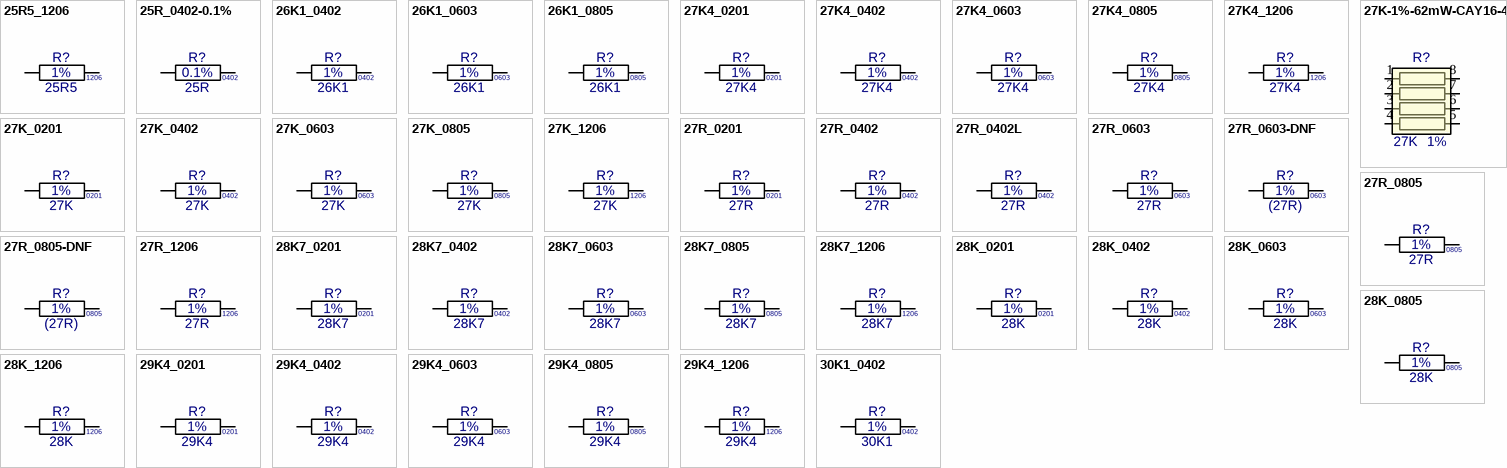
[diagram p29: symbols 25R5_1206 to 30K1_0402]

## 25R5_1206
designator R?, comment value 25R5  Tol: 1%  Text1: 1206  (hidden comment: 25R5_R1206_1%)
Resistor Chip SMD; Manufacturer: Various; Part Number: 25R5 1206 1%; Watt: 250mW; Package: RESC1206X71N; EDM-PN: *; Text2: *; Reutech PN: *; SAAB PN: *; DCE Part No: *
footprint RESC1206X71N (Chip Resistor, 1206, 2-Leads, Body 3.2x1.6mm, IPC Medium Density)
pins: 1, 2

## 25R_0402-0.1%
designator R?, comment value 25R  Tol: 0.1%  Text1: 0402  (hidden comment: 25R_R0402_0.1%)
Resistor Chip SMD; Manufacturer: Various; Part Number: 25R 0402 0.1%; Watt: 63mW; Package: RESC0402X40N; EDM-PN: *; Text2: *; Reutech PN: *; SAAB PN: *; DCE Part No: *
footprint RESC0402X40N (Chip Resistor, 0402, 2-Leads, Body 1.1x0.5mm, IPC Medium Density)
pins: 1, 2

## 26K1_0402
designator R?, comment value 26K1  Tol: 1%  Text1: 0402  (hidden comment: 26K1_R0402_1%)
Resistor Chip SMD; Manufacturer: Various; Part Number: 26K1 0402 1%; Watt: 63mW; Package: RESC0402X40N; EDM-PN: *; Text2: *; Reutech PN: *; SAAB PN: *; DCE Part No: *
footprint RESC0402X40N (Chip Resistor, 0402, 2-Leads, Body 1.1x0.5mm, IPC Medium Density)
pins: 1, 2

## 26K1_0603
designator R?, comment value 26K1  Tol: 1%  Text1: 0603  (hidden comment: 26K1_R0603_1%)
Resistor Chip SMD; Manufacturer: Various; Part Number: 26K1 0603 1%; Watt: 100mW; Reutech PN: 5905-93-; Package: RESC0603X60N; EDM-PN: *; Text2: *; SAAB PN: *; DCE Part No: *
footprint RESC0603X60N (Chip Resistor, 0603, 2-Leads, Body 1.6x0.8mm, IPC Medium Density)
pins: 1, 2

## 26K1_0805
designator R?, comment value 26K1  Tol: 1%  Text1: 0805  (hidden comment: 26K1_R0805_1%)
Resistor Chip SMD; Manufacturer: Various; Part Number: 26K1 0805 1%; Watt: 125mW; Package: RESC0805X65N; EDM-PN: *; Text2: *; Reutech PN: *; SAAB PN: *; DCE Part No: *
footprint RESC0805X65N (Chip Resistor, 0805, 2-Leads, Body 2.0x1.3mm, IPC Medium Density)
pins: 1, 2

## 27K4_0201
designator R?, comment value 27K4  Tol: 1%  Text1: 0201  (hidden comment: 27K4_R0201_1%)
Resistor Chip SMD; Manufacturer: Various; Part Number: 27K4 0201 1%; Watt: 31mW; Package: RESC0201X33N; EDM-PN: *; Text2: *; Reutech PN: *; SAAB PN: *; DCE Part No: *
footprint RESC0201X33N (Chip Resistor, 0201, 2-Leads, Body 0.6x0.3mm, IPC Medium Density)
pins: 1, 2

## 27K4_0402
designator R?, comment value 27K4  Tol: 1%  Text1: 0402  (hidden comment: 27K4_R0402_1%)
Resistor Chip SMD; Manufacturer: Various; Part Number: 27K4 0402 1%; Watt: 63mW; Package: RESC0402X40N; EDM-PN: *; Text2: *; Reutech PN: *; SAAB PN: *; DCE Part No: *
footprint RESC0402X40N (Chip Resistor, 0402, 2-Leads, Body 1.1x0.5mm, IPC Medium Density)
pins: 1, 2

## 27K4_0603
designator R?, comment value 27K4  Tol: 1%  Text1: 0603  (hidden comment: 27K4_R0603_1%)
Resistor Chip SMD; Manufacturer: Various; Part Number: 27K4 0603 1%; Watt: 100mW; Package: RESC0603X60N; EDM-PN: *; Text2: *; Reutech PN: *; SAAB PN: *; DCE Part No: *
footprint RESC0603X60N (Chip Resistor, 0603, 2-Leads, Body 1.6x0.8mm, IPC Medium Density)
pins: 1, 2

## 27K4_0805
designator R?, comment value 27K4  Tol: 1%  Text1: 0805  (hidden comment: 27K4_R0805_1%)
Resistor Chip SMD; Manufacturer: Various; Part Number: 27K4 0805 1%; Watt: 125mW; Package: RESC0805X65N; EDM-PN: *; Text2: *; Reutech PN: *; SAAB PN: *; DCE Part No: *
footprint RESC0805X65N (Chip Resistor, 0805, 2-Leads, Body 2.0x1.3mm, IPC Medium Density)
pins: 1, 2

## 27K4_1206
designator R?, comment value 27K4  Tol: 1%  Text1: 1206  (hidden comment: 27K4_R1206_1%)
Resistor Chip SMD; Manufacturer: Various; Part Number: 27K4 1206 1%; Watt: 250mW; Package: RESC1206X71N; EDM-PN: *; Text2: *; Reutech PN: *; SAAB PN: *; DCE Part No: *
footprint RESC1206X71N (Chip Resistor, 1206, 2-Leads, Body 3.2x1.6mm, IPC Medium Density)
pins: 1, 2

## 27K-1%-62mW-CAY16-4
designator R?  value 27K  Tol: 1%  (hidden comment: 27K-1%-62mW-CAY16-4)
Resistor Chip Array; Manufacturer: Bourns; Part Number: CAY16-273F4; Watt: 62mW; Package: CAY16-4; EDM-PN: *; Text2: *; Text1: *; Reutech PN: *; SAAB PN: *; DCE Part No: *
footprint CAY16-4 (Res Network 1.6x3.2mm)
pins: 1, 2, 3, 4, 5, 6, 7, 8

## 27K_0201
designator R?, comment value 27K  Tol: 1%  Text1: 0201  (hidden comment: 27K_R0201_1%)
Resistor Chip SMD; Manufacturer: Various; Part Number: 27K 0201 1%; Watt: 31mW; Package: RESC0201X33N; EDM-PN: *; Text2: *; Reutech PN: *; SAAB PN: *; DCE Part No: *
footprint RESC0201X33N (Chip Resistor, 0201, 2-Leads, Body 0.6x0.3mm, IPC Medium Density)
pins: 1, 2

## 27K_0402
designator R?, comment value 27K  Tol: 1%  Text1: 0402  (hidden comment: 27K_R0402_1%)
Resistor Chip SMD; Manufacturer: Various; Part Number: 27K 0402 1%; Watt: 63mW; Package: RESC0402X40N; EDM-PN: *; Text2: *; Reutech PN: *; SAAB PN: *; DCE Part No: *
footprint RESC0402X40N (Chip Resistor, 0402, 2-Leads, Body 1.1x0.5mm, IPC Medium Density)
pins: 1, 2

## 27K_0603
designator R?, comment value 27K  Tol: 1%  Text1: 0603  (hidden comment: 27K_R0603_1%)
Resistor Chip SMD; Manufacturer: Various; Part Number: 27K 0603 1%; Watt: 100mW; EDM-PN: RES190; Package: RESC0603X60N; Text2: *; Reutech PN: 5905-93-2702; SAAB PN: *; DCE Part No: *
footprint RESC0603X60N (Chip Resistor, 0603, 2-Leads, Body 1.6x0.8mm, IPC Medium Density)
pins: 1, 2

## 27K_0805
designator R?, comment value 27K  Tol: 1%  Text1: 0805  (hidden comment: 27K_R0805_1%)
Resistor Chip SMD; Manufacturer: Various; Part Number: 27K 0805 1%; Watt: 125mW; Package: RESC0805X65N; EDM-PN: *; Text2: *; Reutech PN: *; SAAB PN: *; DCE Part No: *
footprint RESC0805X65N (Chip Resistor, 0805, 2-Leads, Body 2.0x1.3mm, IPC Medium Density)
pins: 1, 2

## 27K_1206
designator R?, comment value 27K  Tol: 1%  Text1: 1206  (hidden comment: 27K_R1206_1%)
Resistor Chip SMD; Manufacturer: Various; Part Number: 27K 1206 1%; Watt: 250mW; Package: RESC1206X71N; EDM-PN: *; Text2: *; Reutech PN: *; SAAB PN: *; DCE Part No: *
footprint RESC1206X71N (Chip Resistor, 1206, 2-Leads, Body 3.2x1.6mm, IPC Medium Density)
pins: 1, 2

## 27R_0201
designator R?, comment value 27R  Tol: 1%  Text1: 0201  (hidden comment: 27R_R0201_1%)
Resistor Chip SMD; Manufacturer: Various; Part Number: 27R 0201 1%; Watt: 31mW; Package: RESC0201X33N; EDM-PN: *; Text2: *; Reutech PN: *; SAAB PN: *; DCE Part No: *
footprint RESC0201X33N (Chip Resistor, 0201, 2-Leads, Body 0.6x0.3mm, IPC Medium Density)
pins: 1, 2

## 27R_0402
designator R?, comment value 27R  Tol: 1%  Text1: 0402  (hidden comment: 27R_R0402_1%)
Resistor Chip SMD; Manufacturer: Various; Part Number: 27R 0402 1%; DCE Part No: 8246; Watt: 63mW; Package: RESC0402X40N; EDM-PN: *; Text2: *; Reutech PN: *; SAAB PN: *
footprint RESC0402X40N (Chip Resistor, 0402, 2-Leads, Body 1.1x0.5mm, IPC Medium Density)
pins: 1, 2

## 27R_0402L
designator R?, comment value 27R  Tol: 1%  Text1: 0402  (hidden comment: 27R_R0402_1%)
Resistor Chip SMD; Manufacturer: Various; Part Number: 27R 0402 1%; DCE Part No: 8246; Watt: 63mW; Package: RESC0402X40L; EDM-PN: *; Text2: *; Reutech PN: *; SAAB PN: *
footprint RESC0402X40L (Chip Resistor, 0402, 2-Leads, Body 1.1x0.5mm, IPC High Density)
pins: 1, 2

## 27R_0603
designator R?, comment value 27R  Tol: 1%  Text1: 0603  (hidden comment: 27R_R0603_1%)
Resistor Chip SMD; Manufacturer: Various; Part Number: 27R 0603 1%; Watt: 100mW; EDM-PN: RES619; Package: RESC0603X60N; Text2: *; Reutech PN: 5905-93-0027; SAAB PN: *; DCE Part No: *
footprint RESC0603X60N (Chip Resistor, 0603, 2-Leads, Body 1.6x0.8mm, IPC Medium Density)
pins: 1, 2

## 27R_0603-DNF
designator R?, comment value (27R)  Tol: 1%  Text1: 0603  (hidden comment: 27R_R0603_1%-DNF)
Resistor Chip SMD - Do not Fit; Manufacturer: Various; Part Number: DNF - 27R 0603 1%; Watt: 100mW; EDM-PN: RES619; Package: RESC0603X60N; Text2: *; Reutech PN: 5905-93-0027; SAAB PN: *; DCE Part No: *
footprint RESC0603X60N (Chip Resistor, 0603, 2-Leads, Body 1.6x0.8mm, IPC Medium Density)
pins: 1, 2

## 27R_0805
designator R?, comment value 27R  Tol: 1%  Text1: 0805  (hidden comment: 27R_R0805_1%)
Resistor Chip SMD; Manufacturer: Various; Part Number: 27R 0805 1%; Watt: 125mW; EDM-PN: RES91; SAAB PN: 1ACF00170AEA; Package: RESC0805X65N; Text2: *; Reutech PN: *; DCE Part No: *
footprint RESC0805X65N (Chip Resistor, 0805, 2-Leads, Body 2.0x1.3mm, IPC Medium Density)
pins: 1, 2

## 27R_0805-DNF
designator R?, comment value (27R)  Tol: 1%  Text1: 0805  (hidden comment: 27R_R0805_1%-DNF)
Resistor Chip SMD - Do not Fit; Manufacturer: Various; Part Number: DNF - 27R 0805 1%; Watt: 125mW; EDM-PN: RES91; SAAB PN: 1ACF00170AEA; Package: RESC0805X65N; Text2: *; Reutech PN: *; DCE Part No: *
footprint RESC0805X65N (Chip Resistor, 0805, 2-Leads, Body 2.0x1.3mm, IPC Medium Density)
pins: 1, 2

## 27R_1206
designator R?, comment value 27R  Tol: 1%  Text1: 1206  (hidden comment: 27R_R1206_1%)
Resistor Chip SMD; Manufacturer: Various; Part Number: 27R 1206 1%; Watt: 250mW; Package: RESC1206X71N; EDM-PN: *; Text2: *; Reutech PN: *; SAAB PN: *; DCE Part No: *
footprint RESC1206X71N (Chip Resistor, 1206, 2-Leads, Body 3.2x1.6mm, IPC Medium Density)
pins: 1, 2

## 28K7_0201
designator R?, comment value 28K7  Tol: 1%  Text1: 0201  (hidden comment: 28K7_R0201_1%)
Resistor Chip SMD; Manufacturer: Various; Part Number: 28K7 0201 1%; Watt: 31mW; Package: RESC0201X33N; EDM-PN: *; Text2: *; Reutech PN: *; SAAB PN: *; DCE Part No: *
footprint RESC0201X33N (Chip Resistor, 0201, 2-Leads, Body 0.6x0.3mm, IPC Medium Density)
pins: 1, 2

## 28K7_0402
designator R?, comment value 28K7  Tol: 1%  Text1: 0402  (hidden comment: 28K7_R0402_1%)
Resistor Chip SMD; Manufacturer: Various; Part Number: 28K7 0402 1%; Watt: 63mW; Package: RESC0402X40N; EDM-PN: *; Text2: *; Reutech PN: *; SAAB PN: *; DCE Part No: *
footprint RESC0402X40N (Chip Resistor, 0402, 2-Leads, Body 1.1x0.5mm, IPC Medium Density)
pins: 1, 2

## 28K7_0603
designator R?, comment value 28K7  Tol: 1%  Text1: 0603  (hidden comment: 28K7_R0603_1%)
Resistor Chip SMD; Manufacturer: Various; Part Number: 28K7 0603 1%; Watt: 100mW; Package: RESC0603X60N; EDM-PN: *; Text2: *; Reutech PN: *; SAAB PN: *; DCE Part No: *
footprint RESC0603X60N (Chip Resistor, 0603, 2-Leads, Body 1.6x0.8mm, IPC Medium Density)
pins: 1, 2

## 28K7_0805
designator R?, comment value 28K7  Tol: 1%  Text1: 0805  (hidden comment: 28K7_R0805_1%)
Resistor Chip SMD; Manufacturer: Various; Part Number: 28K7 0805 1%; Watt: 125mW; Package: RESC0805X65N; EDM-PN: *; Text2: *; Reutech PN: *; SAAB PN: *; DCE Part No: *
footprint RESC0805X65N (Chip Resistor, 0805, 2-Leads, Body 2.0x1.3mm, IPC Medium Density)
pins: 1, 2

## 28K7_1206
designator R?, comment value 28K7  Tol: 1%  Text1: 1206  (hidden comment: 28K7_R1206_1%)
Resistor Chip SMD; Manufacturer: Various; Part Number: 28K7 1206 1%; Watt: 250mW; Package: RESC1206X71N; EDM-PN: *; Text2: *; Reutech PN: *; SAAB PN: *; DCE Part No: *
footprint RESC1206X71N (Chip Resistor, 1206, 2-Leads, Body 3.2x1.6mm, IPC Medium Density)
pins: 1, 2

## 28K_0201
designator R?, comment value 28K  Tol: 1%  Text1: 0201  (hidden comment: 28K_R0201_1%)
Resistor Chip SMD; Manufacturer: Various; Part Number: 28K 0201 1%; Watt: 31mW; Package: RESC0201X33N; EDM-PN: *; Text2: *; Reutech PN: *; SAAB PN: *; DCE Part No: *
footprint RESC0201X33N (Chip Resistor, 0201, 2-Leads, Body 0.6x0.3mm, IPC Medium Density)
pins: 1, 2

## 28K_0402
designator R?, comment value 28K  Tol: 1%  Text1: 0402  (hidden comment: 28K_R0402_1%)
Resistor Chip SMD; Manufacturer: Various; Part Number: 28K 0402 1%; Watt: 63mW; Package: RESC0402X40N; EDM-PN: *; Text2: *; Reutech PN: *; SAAB PN: *; DCE Part No: *
footprint RESC0402X40N (Chip Resistor, 0402, 2-Leads, Body 1.1x0.5mm, IPC Medium Density)
pins: 1, 2

## 28K_0603
designator R?, comment value 28K  Tol: 1%  Text1: 0603  (hidden comment: 28K_R0603_1%)
Resistor Chip SMD; Manufacturer: Various; Part Number: 28K 0603 1%; Watt: 100mW; Package: RESC0603X60N; EDM-PN: *; Text2: *; Reutech PN: *; SAAB PN: *; DCE Part No: *
footprint RESC0603X60N (Chip Resistor, 0603, 2-Leads, Body 1.6x0.8mm, IPC Medium Density)
pins: 1, 2

## 28K_0805
designator R?, comment value 28K  Tol: 1%  Text1: 0805  (hidden comment: 28K_R0805_1%)
Resistor Chip SMD; Manufacturer: Various; Part Number: 28K 0805 1%; Watt: 125mW; Package: RESC0805X65N; EDM-PN: *; Text2: *; Reutech PN: *; SAAB PN: *; DCE Part No: *
footprint RESC0805X65N (Chip Resistor, 0805, 2-Leads, Body 2.0x1.3mm, IPC Medium Density)
pins: 1, 2

## 28K_1206
designator R?, comment value 28K  Tol: 1%  Text1: 1206  (hidden comment: 28K_R1206_1%)
Resistor Chip SMD; Manufacturer: Various; Part Number: 28K 1206 1%; Watt: 250mW; Package: RESC1206X71N; EDM-PN: *; Text2: *; Reutech PN: *; SAAB PN: *; DCE Part No: *
footprint RESC1206X71N (Chip Resistor, 1206, 2-Leads, Body 3.2x1.6mm, IPC Medium Density)
pins: 1, 2

## 29K4_0201
designator R?, comment value 29K4  Tol: 1%  Text1: 0201  (hidden comment: 29K4_R0201_1%)
Resistor Chip SMD; Manufacturer: Various; Part Number: 29K4 0201 1%; Watt: 31mW; Package: RESC0201X33N; EDM-PN: *; Text2: *; Reutech PN: *; SAAB PN: *; DCE Part No: *
footprint RESC0201X33N (Chip Resistor, 0201, 2-Leads, Body 0.6x0.3mm, IPC Medium Density)
pins: 1, 2

## 29K4_0402
designator R?, comment value 29K4  Tol: 1%  Text1: 0402  (hidden comment: 29K4_R0402_1%)
Resistor Chip SMD; Manufacturer: Various; Part Number: 29K4 0402 1%; Watt: 63mW; Package: RESC0402X40N; EDM-PN: *; Text2: *; Reutech PN: *; SAAB PN: *; DCE Part No: *
footprint RESC0402X40N (Chip Resistor, 0402, 2-Leads, Body 1.1x0.5mm, IPC Medium Density)
pins: 1, 2

## 29K4_0603
designator R?, comment value 29K4  Tol: 1%  Text1: 0603  (hidden comment: 29K4_R0603_1%)
Resistor Chip SMD; Manufacturer: Various; Part Number: 29K4 0603 1%; Watt: 100mW; Package: RESC0603X60N; EDM-PN: *; Text2: *; Reutech PN: *; SAAB PN: *; DCE Part No: *
footprint RESC0603X60N (Chip Resistor, 0603, 2-Leads, Body 1.6x0.8mm, IPC Medium Density)
pins: 1, 2

## 29K4_0805
designator R?, comment value 29K4  Tol: 1%  Text1: 0805  (hidden comment: 29K4_R0805_1%)
Resistor Chip SMD; Manufacturer: Various; Part Number: 29K4 0805 1%; Watt: 125mW; Package: RESC0805X65N; EDM-PN: *; Text2: *; Reutech PN: *; SAAB PN: *; DCE Part No: *
footprint RESC0805X65N (Chip Resistor, 0805, 2-Leads, Body 2.0x1.3mm, IPC Medium Density)
pins: 1, 2

## 29K4_1206
designator R?, comment value 29K4  Tol: 1%  Text1: 1206  (hidden comment: 29K4_R1206_1%)
Resistor Chip SMD; Manufacturer: Various; Part Number: 29K4 1206 1%; Watt: 250mW; Package: RESC1206X71N; EDM-PN: *; Text2: *; Reutech PN: *; SAAB PN: *; DCE Part No: *
footprint RESC1206X71N (Chip Resistor, 1206, 2-Leads, Body 3.2x1.6mm, IPC Medium Density)
pins: 1, 2

## 30K1_0402
designator R?, comment value 30K1  Tol: 1%  Text1: 0402  (hidden comment: 30K1_R0402_1%)
Resistor Chip SMD; Manufacturer: Various; Part Number: 30K1 0402 1%; Watt: 63mW; Package: RESC0402X40N; EDM-PN: *; Text2: *; Reutech PN: *; SAAB PN: *; DCE Part No: *
footprint RESC0402X40N (Chip Resistor, 0402, 2-Leads, Body 1.1x0.5mm, IPC Medium Density)
pins: 1, 2

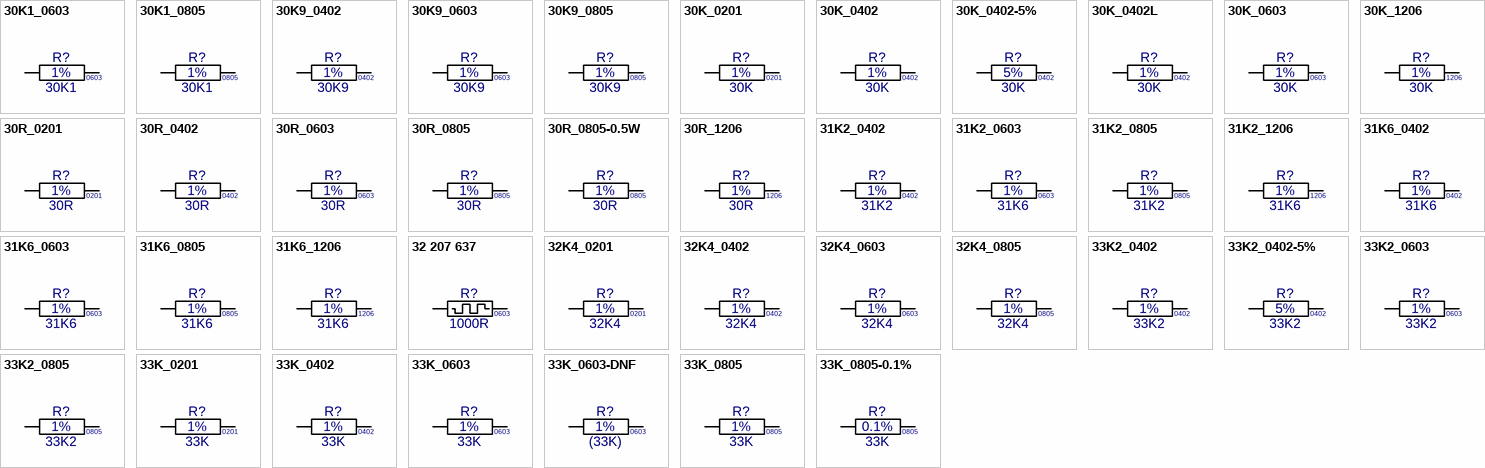
[diagram p30: symbols 30K1_0603 to 33K_0805-0.1%]

## 30K1_0603
designator R?, comment value 30K1  Tol: 1%  Text1: 0603  (hidden comment: 30K1_R0603_1%)
Resistor Chip SMD; Manufacturer: Various; Part Number: 30K1 0603 1%; Watt: 100mW; Package: RESC0603X60N; EDM-PN: *; Text2: *; Reutech PN: *; SAAB PN: *; DCE Part No: *
footprint RESC0603X60N (Chip Resistor, 0603, 2-Leads, Body 1.6x0.8mm, IPC Medium Density)
pins: 1, 2

## 30K1_0805
designator R?, comment value 30K1  Tol: 1%  Text1: 0805  (hidden comment: 30K1_R0805_1%)
Resistor Chip SMD; Manufacturer: Various; Part Number: 30K1 0805 1%; Watt: 125mW; Package: RESC0805X65N; EDM-PN: *; Text2: *; Reutech PN: *; SAAB PN: *; DCE Part No: *
footprint RESC0805X65N (Chip Resistor, 0805, 2-Leads, Body 2.0x1.3mm, IPC Medium Density)
pins: 1, 2

## 30K9_0402
designator R?, comment value 30K9  Tol: 1%  Text1: 0402  (hidden comment: 30K9_R0402_1%)
Resistor Chip SMD; Manufacturer: Various; Part Number: 30K9 0402 1%; Watt: 63mW; Package: RESC0402X40N; EDM-PN: *; Text2: *; Reutech PN: *; SAAB PN: *; DCE Part No: *
footprint RESC0402X40N (Chip Resistor, 0402, 2-Leads, Body 1.1x0.5mm, IPC Medium Density)
pins: 1, 2

## 30K9_0603
designator R?, comment value 30K9  Tol: 1%  Text1: 0603  (hidden comment: 30K9_R0603_1%)
Resistor Chip SMD; Manufacturer: Various; Part Number: 30K9 0603 1%; Watt: 100mW; Package: RESC0603X60N; EDM-PN: *; Text2: *; Reutech PN: *; SAAB PN: *; DCE Part No: *
footprint RESC0603X60N (Chip Resistor, 0603, 2-Leads, Body 1.6x0.8mm, IPC Medium Density)
pins: 1, 2

## 30K9_0805
designator R?, comment value 30K9  Tol: 1%  Text1: 0805  (hidden comment: 30K9_R0805_1%)
Resistor Chip SMD; Manufacturer: Various; Part Number: 30K9 0805 1%; Watt: 125mW; Package: RESC0805X65N; EDM-PN: *; Text2: *; Reutech PN: *; SAAB PN: *; DCE Part No: *
footprint RESC0805X65N (Chip Resistor, 0805, 2-Leads, Body 2.0x1.3mm, IPC Medium Density)
pins: 1, 2

## 30K_0201
designator R?, comment value 30K  Tol: 1%  Text1: 0201  (hidden comment: 30K_R0201_1%)
Resistor Chip SMD; Manufacturer: Various; Part Number: 30K 0201 1%; Watt: 31mW; Package: RESC0201X33N; EDM-PN: *; Text2: *; Reutech PN: *; SAAB PN: *; DCE Part No: *
footprint RESC0201X33N (Chip Resistor, 0201, 2-Leads, Body 0.6x0.3mm, IPC Medium Density)
pins: 1, 2

## 30K_0402
designator R?, comment value 30K  Tol: 1%  Text1: 0402  (hidden comment: 30K_R0402_1%)
Resistor Chip SMD; Manufacturer: Various; Part Number: 30K 0402 1%; DCE Part No: 9530; Watt: 63mW; EDM-PN: RES1499; Package: RESC0402X40N; Text2: *; Reutech PN: *; SAAB PN: *
footprint RESC0402X40N (Chip Resistor, 0402, 2-Leads, Body 1.1x0.5mm, IPC Medium Density)
pins: 1, 2

## 30K_0402-5%
designator R?, comment value 30K  Tol: 5%  Text1: 0402  (hidden comment: 30K_R0402_5%)
Resistor Chip SMD; Manufacturer: Various; Part Number: 30K 0402 5%; Watt: 63mW; Package: RESC0402X40N; EDM-PN: *; Text2: *; Reutech PN: *; SAAB PN: *; DCE Part No: *
footprint RESC0402X40N (Chip Resistor, 0402, 2-Leads, Body 1.1x0.5mm, IPC Medium Density)
pins: 1, 2

## 30K_0402L
designator R?, comment value 30K  Tol: 1%  Text1: 0402  (hidden comment: 30K_R0402_1%)
Resistor Chip SMD; Manufacturer: Various; Part Number: 30K 0402 1%; DCE Part No: 9530; Watt: 63mW; EDM-PN: RES1499; Package: RESC0402X40L; Text2: *; Reutech PN: *; SAAB PN: *
footprint RESC0402X40L (Chip Resistor, 0402, 2-Leads, Body 1.1x0.5mm, IPC High Density)
pins: 1, 2

## 30K_0603
designator R?, comment value 30K  Tol: 1%  Text1: 0603  (hidden comment: 30K_R0603_1%)
Resistor Chip SMD; Manufacturer: Various; Part Number: 30K 0603 1%; Watt: 100mW; Package: RESC0603X60N; EDM-PN: *; Text2: *; Reutech PN: 5905-93-3002; SAAB PN: *; DCE Part No: *
footprint RESC0603X60N (Chip Resistor, 0603, 2-Leads, Body 1.6x0.8mm, IPC Medium Density)
pins: 1, 2